# Altium schematic symbol library em-microelectronic.SCHLIB: 1 symbol
Pins are listed as number, name and electrical type; pins without a type are passive.

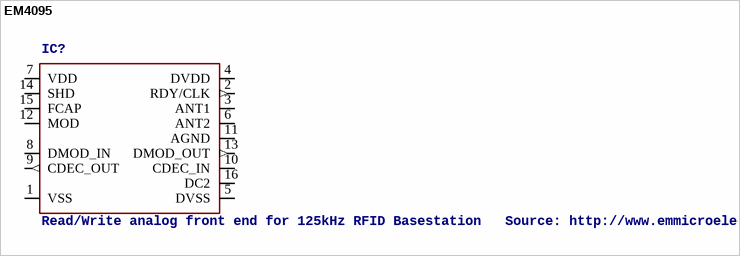
[diagram p0: symbol EM4095]

## EM4095
designator IC?, comment Read/Write analog front end for 125kHz RFID Basestation   Source: http://www.emmicroelectronic.com/webfiles/Product/RFID/DS/EM4095_DS.pdf
footprint SO16
pins: 1 VSS (power), 2 RDY/CLK (out), 3 ANT1, 4 DVDD (power), 5 DVSS (power), 6 ANT2, 7 VDD (power), 8 DMOD_IN, 9 CDEC_OUT (out), 10 CDEC_IN, 11 AGND (power), 12 MOD, 13 DMOD_OUT (out), 14 SHD, 15 FCAP, 16 DC2